# Altium footprint library C3662799.PcbLib: 1 footprints
Each footprint in its own frame and in the unit in brackets; x right, y up, seen from the top. Pads: shape width x height; smd on the part's side, far side on the other; paste and mask are expansions set on the pad; w line width, h text height; cw(c..) or ccw(c..) is an arc to the next point about the centre after c.
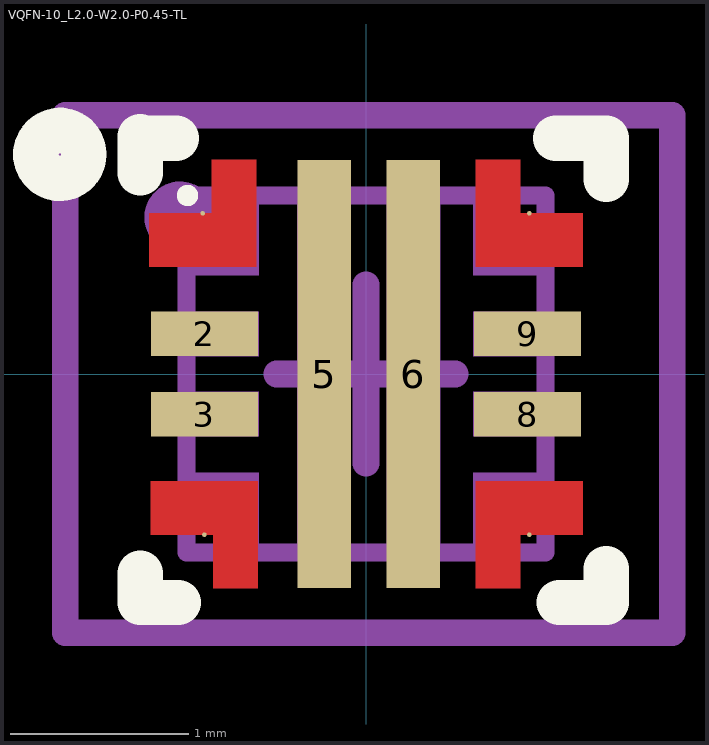
[diagram p0: the footprint, top view; thin cyan lines are the x and y axes]

## VQFN-10_L2.0-W2.0-P0.45-TL [mm] "Surge Protection IC 2.7V~23V QFN-10(2x2)"
pads (10):
  round 0.025 smd: 1(-0.915,0.9) 4(-0.905,-0.9) 7(0.915,-0.9) 10(0.915,0.9)
  rect 0.6x0.25 smd: 2(-0.905,0.225) 3(-0.905,-0.225) 8(0.905,-0.225) 9(0.905,0.225)
  rect 0.3x2.4 smd: 5(-0.235,0) 6(0.265,0)
Top Layer:
  region: -0.865,1.2 -0.865,0.9 -1.215,0.9 -1.215,0.6 -0.865,0.6 -0.615,0.6 -0.615,0.9 -0.615,1.2
  region: -0.855,-1.2 -0.855,-0.9 -1.205,-0.9 -1.205,-0.6 -0.855,-0.6 -0.605,-0.6 -0.605,-0.9 -0.605,-1.2
  region: 0.865,-1.2 0.865,-0.9 1.215,-0.9 1.215,-0.6 0.865,-0.6 0.615,-0.6 0.615,-0.9 0.615,-1.2
  region: 0.865,1.2 0.865,0.9 1.215,0.9 1.215,0.6 0.865,0.6 0.615,0.6 0.615,0.9 0.615,1.2
Top Overlay:
  circle w0.06: c-1,1 r0.03
  circle w0.254: c-1.715,1.23 r0.135
  lines w0.254: -1.265,-1.117 -1.265,-1.28 -1.052,-1.28 ; -1.265,1.126 -1.265,1.33 ; -1.225,1.32 -1.062,1.32 ; 1.062,1.32 1.345,1.32 1.345,1.091 ; 1.082,-1.28 1.345,-1.28 1.345,-1.091
AOI:
  circle w0.2: c-1.042,0.878 r0.1
  region: -1,0.1 -1,0.35 -0.6,0.35 -0.6,0.1
  region: -1,-0.35 -1,-0.1 -0.6,-0.1 -0.6,-0.35
  region: 0.6,-0.35 0.6,-0.1 1,-0.1 1,-0.35
  region: 0.6,0.1 0.6,0.35 1,0.35 1,0.1
  region: -0.6,1 -0.6,0.85 -0.6,0.553 -1,0.553 -1,0.853 -0.85,0.853 -0.85,1
  region: 0.6,1 0.6,0.85 0.6,0.553 1,0.553 1,0.853 0.85,0.853 0.85,1
  region: -0.6,-1 -0.6,-0.85 -0.6,-0.553 -1,-0.553 -1,-0.853 -0.85,-0.853 -0.85,-1
  region: 0.6,-1 0.6,-0.85 0.6,-0.553 1,-0.553 1,-0.853 0.85,-0.853 0.85,-1
  region: -0.385,1 -0.085,1 -0.085,-1 -0.385,-1
  region: 0.115,1 0.415,1 0.415,-1 0.115,-1
Top 3D Body:
  lines w0.1: -1.005,-1 1.005,-1 1.005,1 -1.005,1 -1.005,-1
Top Courtyard:
  lines w0.15: -0.5,0 0.5,0 ; 0,-0.5 0,0.5 ; -1.685,-1.45 1.715,-1.45 1.715,1.45 -1.685,1.45 -1.685,-1.45
3D body "VQFN-10_L2.0-W2.0-P0.45-TL.step": height 0.03, standoff 0, extent -1.005,-1 1.005,1